# Altium footprint library Oasis_Heater_Testing.PcbLib: 5 footprints
Each footprint in its own frame and in the unit in brackets; x right, y up, seen from the top. Pads: shape width x height; smd on the part's side, far side on the other; paste and mask are expansions set on the pad; w line width, h text height; cw(c..) or ccw(c..) is an arc to the next point about the centre after c.
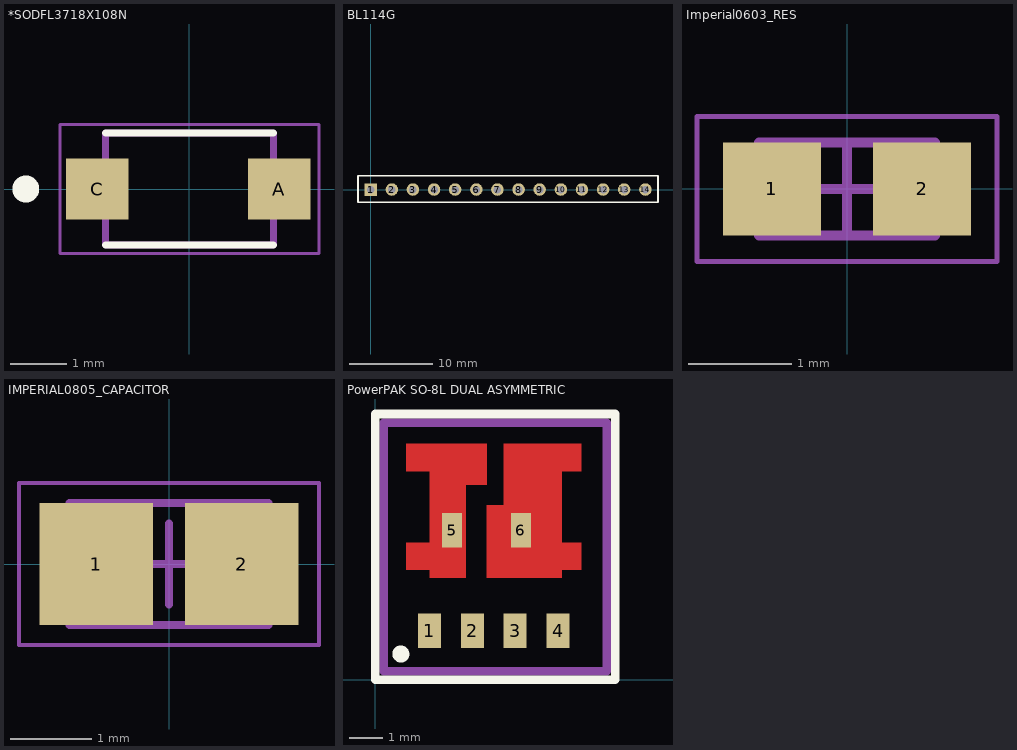
[diagram p0: the footprints below, top view; thin cyan lines are the x and y axes]

## *SODFL3718X108N [mm]
pads (2):
  rect 1.12x1.08 smd: A(1.6,0) C(-1.645,0)
Top Overlay:
  circle w0.24: c-2.921,0 r0.12
  lines w0.127: -1.5,-1 1.5,-1 ; -1.5,1 1.5,1
Mechanical 4:
  lines w0.127: -1.5,-1 -1.5,1 ; -1.5,-1 1.5,-1 ; -1.5,-1 -1.5,1 ; -1.5,-1 1.5,-1 ; -1.5,1 1.5,1 ; -1.5,1 1.5,1 ; 1.5,-1 1.5,1 ; 1.5,-1 1.5,1
Mechanical 16:
  lines w0.05: -2.31,-1.15 -2.31,1.15 2.31,1.15 2.31,-1.15 -2.31,-1.15
3D body: height 0.97, standoff 0, extent -1.143,-1.016 1.524,1.016
3D body: height 0.97, standoff 0, extent -1.524,-1.016 -1.143,1.016

## BL114G [mm] "Connector; Header; 14 Position"
pads (14):
  rect 1.5x1.5 hole 0.9: 1(0,0)
  round 1.5 hole 0.9: 2(2.54,0) 3(5.08,0) 4(7.62,0) 5(10.16,0) 6(12.7,0) 7(15.24,0) 8(17.78,0) 9(20.32,0) 10(22.86,0) 11(25.4,0) 12(27.94,0) 13(30.48,0) 14(33.02,0)
Top Overlay:
  lines w0.2: -1.524,-1.524 -1.524,1.651 1.016,1.651 34.544,1.651 34.544,-1.524 -1.524,-1.524
3D body "Fischer_BL114G.step": height 8.18, standoff -2.62, extent -0.762,-1.23 33.884,1.27

## Imperial0603_RES [mm] "Imperial 0603 resistor footprint"
height 0.55
pads (2):
  rect 0.95x0.9 smd: 1(-0.725,0) 2(0.725,0)
Dimensions:
  lines w0.1: -0.85,-0.45 0.85,-0.45 0.85,0.45 -0.85,0.45 -0.85,-0.45
Mechanical 15:
  lines w0.05: -1.45,-0.7 1.45,-0.7 1.45,0.7 -1.45,0.7 -1.45,-0.7
  lines w0.1: -0.45,0 0.45,0 ; 0,-0.45 0,0.45
3D body "R_Imperial0603.step": height 0.55, standoff 0, extent -0.85,-0.45 0.85,0.45

## IMPERIAL0805_CAPACITOR [mm] "Chip Capacitor, 2-Leads, Body 2.13x1.27mm, IPC Medium Density"
height 0.45
pads (2):
  rect 1.4x1.5 smd: 1(-0.9,0) 2(0.9,0)
Dimensions:
  lines w0.1: -1.225,-0.75 -1.225,0.75 1.225,0.75 1.225,-0.75 -1.225,-0.75
Mechanical 15:
  lines w0.05: -1.85,-1 -1.85,1 1.85,1 1.85,-1 -1.85,-1
  lines w0.1: -0.5,0 0.5,0 ; 0,-0.5 0,0.5
3D body "IMPERIAL0805_CAPACITOR.step": height 0.45, standoff 0, extent -1.225,-0.75 1.225,0.75

## PowerPAK SO-8L DUAL ASYMMETRIC [mm]
height 1.07
pads (6):
  rect 0.68x1.02 smd: 1(1.61,1.455) 2(2.88,1.455) 3(4.15,1.455) 4(5.42,1.455)
  rect 0.59x1.02 smd paste-1 mask-1: 5(2.28,4.435) 6(4.32,4.435)
Top Layer:
  region: 4.58,6.35
  region: 4.58,5.715
  region: 3.81,6.985 6.115,6.985 6.115,6.175 5.53,6.175 5.53,4.065 6.115,4.065 6.115,3.255 5.53,3.255 5.53,3.025 3.3,3.025 3.3,5.165 3.81,5.165
  region: 0.915,6.985 3.3,6.985 3.3,5.775 2.685,5.775 2.685,3.025 1.625,3.025 1.625,3.255 0.915,3.255 0.915,4.065 1.625,4.065 1.625,6.175 0.915,6.175
  region: 7.874,-1.016
Top Overlay:
  lines w0.254: 0.876,0.819 ccw(c0.762,0.762) 0.889,0.762 ; 0,0 7.112,0 7.112,7.874 0,7.874 0,0
Mechanical 15:
  lines w0.254: 0.254,0.254 0.254,7.62 6.858,7.62 6.858,0.254 0.254,0.254
3D body: height 1.02, standoff 0, extent 1.27,1.397 5.715,6.604